# Altium schematic symbol library Resistors$.SchLib: 672 symbols (part 1 of 5)
Pins are listed as number, name and electrical type; pins without a type are passive.

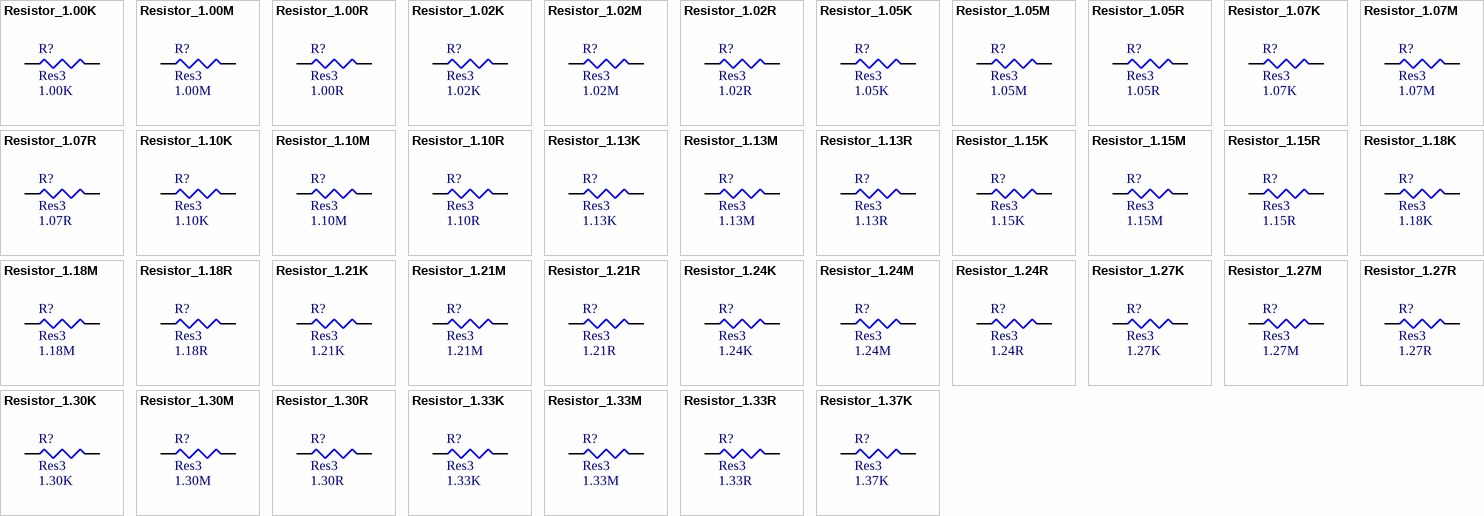
[diagram p0: symbols Resistor_1.00K to Resistor_1.37K]

## Resistor_1.00K
designator R?, comment Res3  value 1.00K
RES SMD 1.00K OHM 1% 1/8W 0805; MPN: CRCW08051K00FKEA; Name: Resistor_1.00K; PN: 541-1000KCCT-ND; URL: http://www.digikey.ca/product-detail/en/CRCW08051K00FKEA/541-1000KCCT-ND
footprint RESC2112X05M (Chip Resistor, 2-Leads, Body 2.05x1.25mm, IPC Low Density)
pins: 1, 2

## Resistor_1.00M
designator R?, comment Res3  value 1.00M
RES SMD 1.00M OHM 1% 1/8W 0805; MPN: CRCW08051M00FKEA; Name: Resistor_1.00M; PN: 541-1000MCCT-ND; URL: http://www.digikey.ca/product-detail/en/CRCW08051M00FKEA/541-1000MCCT-ND
footprint RESC2112X05M (Chip Resistor, 2-Leads, Body 2.05x1.25mm, IPC Low Density)
pins: 1, 2

## Resistor_1.00R
designator R?, comment Res3  value 1.00R
RES SMD 1.00R OHM 1% 1/8W 0805; MPN: CRCW08051R00FKEA; Name: Resistor_1.00R; PN: 541-1.00CCCT-ND; URL: http://www.digikey.ca/product-detail/en/CRCW08051R00FKEA/541-1.00CCCT-ND
footprint RESC2112X05M (Chip Resistor, 2-Leads, Body 2.05x1.25mm, IPC Low Density)
pins: 1, 2

## Resistor_1.02K
designator R?, comment Res3  value 1.02K
RES SMD 1.02K OHM 1% 1/8W 0805; MPN: CRCW08051K02FKEA; Name: Resistor_1.02K; PN: 541-1020KCCT-ND; URL: http://www.digikey.ca/product-detail/en/CRCW08051K02FKEA/541-1020KCCT-ND
footprint RESC2112X05M (Chip Resistor, 2-Leads, Body 2.05x1.25mm, IPC Low Density)
pins: 1, 2

## Resistor_1.02M
designator R?, comment Res3  value 1.02M
RES SMD 1.02M OHM 1% 1/8W 0805; MPN: CRCW08051M02FKEA; Name: Resistor_1.02M; PN: 541-1020MCCT-ND; URL: http://www.digikey.ca/product-detail/en/CRCW08051M02FKEA/541-1020MCCT-ND
footprint RESC2112X05M (Chip Resistor, 2-Leads, Body 2.05x1.25mm, IPC Low Density)
pins: 1, 2

## Resistor_1.02R
designator R?, comment Res3  value 1.02R
RES SMD 1.02R OHM 1% 1/8W 0805; MPN: CRCW08051R02FKEA; Name: Resistor_1.02R; PN: 541-1.02CCCT-ND; URL: http://www.digikey.ca/product-detail/en/CRCW08051R02FKEA/541-1.02CCCT-ND
footprint RESC2112X05M (Chip Resistor, 2-Leads, Body 2.05x1.25mm, IPC Low Density)
pins: 1, 2

## Resistor_1.05K
designator R?, comment Res3  value 1.05K
RES SMD 1.05K OHM 1% 1/8W 0805; MPN: CRCW08051K05FKEA; Name: Resistor_1.05K; PN: 541-1050KCCT-ND; URL: http://www.digikey.ca/product-detail/en/CRCW08051K05FKEA/541-1050KCCT-ND
footprint RESC2112X05M (Chip Resistor, 2-Leads, Body 2.05x1.25mm, IPC Low Density)
pins: 1, 2

## Resistor_1.05M
designator R?, comment Res3  value 1.05M
RES SMD 1.05M OHM 1% 1/8W 0805; MPN: CRCW08051M05FKEA; Name: Resistor_1.05M; PN: 541-1050MCCT-ND; URL: http://www.digikey.ca/product-detail/en/CRCW08051M05FKEA/541-1050MCCT-ND
footprint RESC2112X05M (Chip Resistor, 2-Leads, Body 2.05x1.25mm, IPC Low Density)
pins: 1, 2

## Resistor_1.05R
designator R?, comment Res3  value 1.05R
RES SMD 1.05R OHM 1% 1/8W 0805; MPN: CRCW08051R05FKEA; Name: Resistor_1.05R; PN: 541-1.05CCCT-ND; URL: http://www.digikey.ca/product-detail/en/CRCW08051R05FKEA/541-1.05CCCT-ND
footprint RESC2112X05M (Chip Resistor, 2-Leads, Body 2.05x1.25mm, IPC Low Density)
pins: 1, 2

## Resistor_1.07K
designator R?, comment Res3  value 1.07K
RES SMD 1.07K OHM 1% 1/8W 0805; MPN: CRCW08051K07FKEA; Name: Resistor_1.07K; PN: 541-1070KCCT-ND; URL: http://www.digikey.ca/product-detail/en/CRCW08051K07FKEA/541-1070KCCT-ND
footprint RESC2112X05M (Chip Resistor, 2-Leads, Body 2.05x1.25mm, IPC Low Density)
pins: 1, 2

## Resistor_1.07M
designator R?, comment Res3  value 1.07M
RES SMD 1.07M OHM 1% 1/8W 0805; MPN: CRCW08051M07FKEA; Name: Resistor_1.07M; PN: 541-1070MCCT-ND; URL: http://www.digikey.ca/product-detail/en/CRCW08051M07FKEA/541-1070MCCT-ND
footprint RESC2112X05M (Chip Resistor, 2-Leads, Body 2.05x1.25mm, IPC Low Density)
pins: 1, 2

## Resistor_1.07R
designator R?, comment Res3  value 1.07R
RES SMD 1.07R OHM 1% 1/8W 0805; MPN: CRCW08051R07FKEA; Name: Resistor_1.07R; PN: 541-1.07CCCT-ND; URL: http://www.digikey.ca/product-detail/en/CRCW08051R07FKEA/541-1.07CCCT-ND
footprint RESC2112X05M (Chip Resistor, 2-Leads, Body 2.05x1.25mm, IPC Low Density)
pins: 1, 2

## Resistor_1.10K
designator R?, comment Res3  value 1.10K
RES SMD 1.10K OHM 1% 1/8W 0805; MPN: CRCW08051K10FKEA; Name: Resistor_1.10K; PN: 541-1100KCCT-ND; URL: http://www.digikey.ca/product-detail/en/CRCW08051K10FKEA/541-1100KCCT-ND
footprint RESC2112X05M (Chip Resistor, 2-Leads, Body 2.05x1.25mm, IPC Low Density)
pins: 1, 2

## Resistor_1.10M
designator R?, comment Res3  value 1.10M
RES SMD 1.10M OHM 1% 1/8W 0805; MPN: CRCW08051M10FKEA; Name: Resistor_1.10M; PN: 541-1100MCCT-ND; URL: http://www.digikey.ca/product-detail/en/CRCW08051M10FKEA/541-1100MCCT-ND
footprint RESC2112X05M (Chip Resistor, 2-Leads, Body 2.05x1.25mm, IPC Low Density)
pins: 1, 2

## Resistor_1.10R
designator R?, comment Res3  value 1.10R
RES SMD 1.10R OHM 1% 1/8W 0805; MPN: CRCW08051R10FKEA; Name: Resistor_1.10R; PN: 541-1.10CCCT-ND; URL: http://www.digikey.ca/product-detail/en/CRCW08051R10FKEA/541-1.10CCCT-ND
footprint RESC2112X05M (Chip Resistor, 2-Leads, Body 2.05x1.25mm, IPC Low Density)
pins: 1, 2

## Resistor_1.13K
designator R?, comment Res3  value 1.13K
RES SMD 1.13K OHM 1% 1/8W 0805; MPN: CRCW08051K13FKEA; Name: Resistor_1.13K; PN: 541-1130KCCT-ND; URL: http://www.digikey.ca/product-detail/en/CRCW08051K13FKEA/541-1130KCCT-ND
footprint RESC2112X05M (Chip Resistor, 2-Leads, Body 2.05x1.25mm, IPC Low Density)
pins: 1, 2

## Resistor_1.13M
designator R?, comment Res3  value 1.13M
RES SMD 1.13M OHM 1% 1/8W 0805; MPN: CRCW08051M13FKEA; Name: Resistor_1.13M; PN: 541-1130MCCT-ND; URL: http://www.digikey.ca/product-detail/en/CRCW08051M13FKEA/541-1130MCCT-ND
footprint RESC2112X05M (Chip Resistor, 2-Leads, Body 2.05x1.25mm, IPC Low Density)
pins: 1, 2

## Resistor_1.13R
designator R?, comment Res3  value 1.13R
RES SMD 1.13R OHM 1% 1/8W 0805; MPN: CRCW08051R13FKEA; Name: Resistor_1.13R; PN: 541-1.13CCCT-ND; URL: http://www.digikey.ca/product-detail/en/CRCW08051R13FKEA/541-1.13CCCT-ND
footprint RESC2112X05M (Chip Resistor, 2-Leads, Body 2.05x1.25mm, IPC Low Density)
pins: 1, 2

## Resistor_1.15K
designator R?, comment Res3  value 1.15K
RES SMD 1.15K OHM 1% 1/8W 0805; MPN: CRCW08051K15FKEA; Name: Resistor_1.15K; PN: 541-1150KCCT-ND; URL: http://www.digikey.ca/product-detail/en/CRCW08051K15FKEA/541-1150KCCT-ND
footprint RESC2112X05M (Chip Resistor, 2-Leads, Body 2.05x1.25mm, IPC Low Density)
pins: 1, 2

## Resistor_1.15M
designator R?, comment Res3  value 1.15M
RES SMD 1.15M OHM 1% 1/8W 0805; MPN: CRCW08051M15FKEA; Name: Resistor_1.15M; PN: 541-1150MCCT-ND; URL: http://www.digikey.ca/product-detail/en/CRCW08051M15FKEA/541-1150MCCT-ND
footprint RESC2112X05M (Chip Resistor, 2-Leads, Body 2.05x1.25mm, IPC Low Density)
pins: 1, 2

## Resistor_1.15R
designator R?, comment Res3  value 1.15R
RES SMD 1.15R OHM 1% 1/8W 0805; MPN: CRCW08051R15FKEA; Name: Resistor_1.15R; PN: 541-1.15CCCT-ND; URL: http://www.digikey.ca/product-detail/en/CRCW08051R15FKEA/541-1.15CCCT-ND
footprint RESC2112X05M (Chip Resistor, 2-Leads, Body 2.05x1.25mm, IPC Low Density)
pins: 1, 2

## Resistor_1.18K
designator R?, comment Res3  value 1.18K
RES SMD 1.18K OHM 1% 1/8W 0805; MPN: CRCW08051K18FKEA; Name: Resistor_1.18K; PN: 541-1180KCCT-ND; URL: http://www.digikey.ca/product-detail/en/CRCW08051K18FKEA/541-1180KCCT-ND
footprint RESC2112X05M (Chip Resistor, 2-Leads, Body 2.05x1.25mm, IPC Low Density)
pins: 1, 2

## Resistor_1.18M
designator R?, comment Res3  value 1.18M
RES SMD 1.18M OHM 1% 1/8W 0805; MPN: CRCW08051M18FKEA; Name: Resistor_1.18M; PN: 541-1180MCCT-ND; URL: http://www.digikey.ca/product-detail/en/CRCW08051M18FKEA/541-1180MCCT-ND
footprint RESC2112X05M (Chip Resistor, 2-Leads, Body 2.05x1.25mm, IPC Low Density)
pins: 1, 2

## Resistor_1.18R
designator R?, comment Res3  value 1.18R
RES SMD 1.18R OHM 1% 1/8W 0805; MPN: CRCW08051R18FKEA; Name: Resistor_1.18R; PN: 541-1.18CCCT-ND; URL: http://www.digikey.ca/product-detail/en/CRCW08051R18FKEA/541-1.18CCCT-ND
footprint RESC2112X05M (Chip Resistor, 2-Leads, Body 2.05x1.25mm, IPC Low Density)
pins: 1, 2

## Resistor_1.21K
designator R?, comment Res3  value 1.21K
RES SMD 1.21K OHM 1% 1/8W 0805; MPN: CRCW08051K21FKEA; Name: Resistor_1.21K; PN: 541-1210KCCT-ND; URL: http://www.digikey.ca/product-detail/en/CRCW08051K21FKEA/541-1210KCCT-ND
footprint RESC2112X05M (Chip Resistor, 2-Leads, Body 2.05x1.25mm, IPC Low Density)
pins: 1, 2

## Resistor_1.21M
designator R?, comment Res3  value 1.21M
RES SMD 1.21M OHM 1% 1/8W 0805; MPN: CRCW08051M21FKEA; Name: Resistor_1.21M; PN: 541-1210MCCT-ND; URL: http://www.digikey.ca/product-detail/en/CRCW08051M21FKEA/541-1210MCCT-ND
footprint RESC2112X05M (Chip Resistor, 2-Leads, Body 2.05x1.25mm, IPC Low Density)
pins: 1, 2

## Resistor_1.21R
designator R?, comment Res3  value 1.21R
RES SMD 1.21R OHM 1% 1/8W 0805; MPN: CRCW08051R21FKEA; Name: Resistor_1.21R; PN: 541-1.21CCCT-ND; URL: http://www.digikey.ca/product-detail/en/CRCW08051R21FKEA/541-1.21CCCT-ND
footprint RESC2112X05M (Chip Resistor, 2-Leads, Body 2.05x1.25mm, IPC Low Density)
pins: 1, 2

## Resistor_1.24K
designator R?, comment Res3  value 1.24K
RES SMD 1.24K OHM 1% 1/8W 0805; MPN: CRCW08051K24FKEA; Name: Resistor_1.24K; PN: 541-1240KCCT-ND; URL: http://www.digikey.ca/product-detail/en/CRCW08051K24FKEA/541-1240KCCT-ND
footprint RESC2112X05M (Chip Resistor, 2-Leads, Body 2.05x1.25mm, IPC Low Density)
pins: 1, 2

## Resistor_1.24M
designator R?, comment Res3  value 1.24M
RES SMD 1.24M OHM 1% 1/8W 0805; MPN: CRCW08051M24FKEA; Name: Resistor_1.24M; PN: 541-1240MCCT-ND; URL: http://www.digikey.ca/product-detail/en/CRCW08051M24FKEA/541-1240MCCT-ND
footprint RESC2112X05M (Chip Resistor, 2-Leads, Body 2.05x1.25mm, IPC Low Density)
pins: 1, 2

## Resistor_1.24R
designator R?, comment Res3  value 1.24R
RES SMD 1.24R OHM 1% 1/8W 0805; MPN: CRCW08051R24FKEA; Name: Resistor_1.24R; PN: 541-1.24CCCT-ND; URL: http://www.digikey.ca/product-detail/en/CRCW08051R24FKEA/541-1.24CCCT-ND
footprint RESC2112X05M (Chip Resistor, 2-Leads, Body 2.05x1.25mm, IPC Low Density)
pins: 1, 2

## Resistor_1.27K
designator R?, comment Res3  value 1.27K
RES SMD 1.27K OHM 1% 1/8W 0805; MPN: CRCW08051K27FKEA; Name: Resistor_1.27K; PN: 541-1270KCCT-ND; URL: http://www.digikey.ca/product-detail/en/CRCW08051K27FKEA/541-1270KCCT-ND
footprint RESC2112X05M (Chip Resistor, 2-Leads, Body 2.05x1.25mm, IPC Low Density)
pins: 1, 2

## Resistor_1.27M
designator R?, comment Res3  value 1.27M
RES SMD 1.27M OHM 1% 1/8W 0805; MPN: CRCW08051M27FKEA; Name: Resistor_1.27M; PN: 541-1270MCCT-ND; URL: http://www.digikey.ca/product-detail/en/CRCW08051M27FKEA/541-1270MCCT-ND
footprint RESC2112X05M (Chip Resistor, 2-Leads, Body 2.05x1.25mm, IPC Low Density)
pins: 1, 2

## Resistor_1.27R
designator R?, comment Res3  value 1.27R
RES SMD 1.27R OHM 1% 1/8W 0805; MPN: CRCW08051R27FKEA; Name: Resistor_1.27R; PN: 541-1.27CCCT-ND; URL: http://www.digikey.ca/product-detail/en/CRCW08051R27FKEA/541-1.27CCCT-ND
footprint RESC2112X05M (Chip Resistor, 2-Leads, Body 2.05x1.25mm, IPC Low Density)
pins: 1, 2

## Resistor_1.30K
designator R?, comment Res3  value 1.30K
RES SMD 1.30K OHM 1% 1/8W 0805; MPN: CRCW08051K30FKEA; Name: Resistor_1.30K; PN: 541-1300KCCT-ND; URL: http://www.digikey.ca/product-detail/en/CRCW08051K30FKEA/541-1300KCCT-ND
footprint RESC2112X05M (Chip Resistor, 2-Leads, Body 2.05x1.25mm, IPC Low Density)
pins: 1, 2

## Resistor_1.30M
designator R?, comment Res3  value 1.30M
RES SMD 1.30M OHM 1% 1/8W 0805; MPN: CRCW08051M30FKEA; Name: Resistor_1.30M; PN: 541-1300MCCT-ND; URL: http://www.digikey.ca/product-detail/en/CRCW08051M30FKEA/541-1300MCCT-ND
footprint RESC2112X05M (Chip Resistor, 2-Leads, Body 2.05x1.25mm, IPC Low Density)
pins: 1, 2

## Resistor_1.30R
designator R?, comment Res3  value 1.30R
RES SMD 1.30R OHM 1% 1/8W 0805; MPN: CRCW08051R30FKEA; Name: Resistor_1.30R; PN: 541-1.30CCCT-ND; URL: http://www.digikey.ca/product-detail/en/CRCW08051R30FKEA/541-1.30CCCT-ND
footprint RESC2112X05M (Chip Resistor, 2-Leads, Body 2.05x1.25mm, IPC Low Density)
pins: 1, 2

## Resistor_1.33K
designator R?, comment Res3  value 1.33K
RES SMD 1.33K OHM 1% 1/8W 0805; MPN: CRCW08051K33FKEA; Name: Resistor_1.33K; PN: 541-1330KCCT-ND; URL: http://www.digikey.ca/product-detail/en/CRCW08051K33FKEA/541-1330KCCT-ND
footprint RESC2112X05M (Chip Resistor, 2-Leads, Body 2.05x1.25mm, IPC Low Density)
pins: 1, 2

## Resistor_1.33M
designator R?, comment Res3  value 1.33M
RES SMD 1.33M OHM 1% 1/8W 0805; MPN: CRCW08051M33FKEA; Name: Resistor_1.33M; PN: 541-1330MCCT-ND; URL: http://www.digikey.ca/product-detail/en/CRCW08051M33FKEA/541-1330MCCT-ND
footprint RESC2112X05M (Chip Resistor, 2-Leads, Body 2.05x1.25mm, IPC Low Density)
pins: 1, 2

## Resistor_1.33R
designator R?, comment Res3  value 1.33R
RES SMD 1.33R OHM 1% 1/8W 0805; MPN: CRCW08051R33FKEA; Name: Resistor_1.33R; PN: 541-1.33CCCT-ND; URL: http://www.digikey.ca/product-detail/en/CRCW08051R33FKEA/541-1.33CCCT-ND
footprint RESC2112X05M (Chip Resistor, 2-Leads, Body 2.05x1.25mm, IPC Low Density)
pins: 1, 2

## Resistor_1.37K
designator R?, comment Res3  value 1.37K
RES SMD 1.37K OHM 1% 1/8W 0805; MPN: CRCW08051K37FKEA; Name: Resistor_1.37K; PN: 541-1370KCCT-ND; URL: http://www.digikey.ca/product-detail/en/CRCW08051K37FKEA/541-1370KCCT-ND
footprint RESC2112X05M (Chip Resistor, 2-Leads, Body 2.05x1.25mm, IPC Low Density)
pins: 1, 2

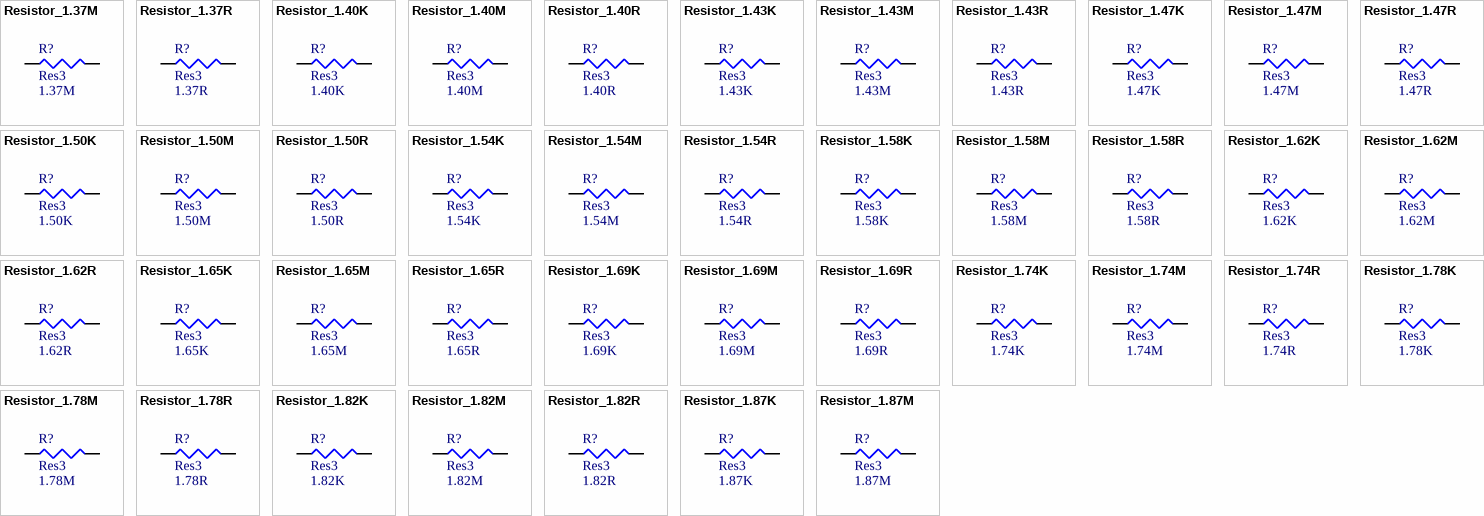
[diagram p1: symbols Resistor_1.37M to Resistor_1.87M]

## Resistor_1.37M
designator R?, comment Res3  value 1.37M
RES SMD 1.37M OHM 1% 1/8W 0805; MPN: CRCW08051M37FKEA; Name: Resistor_1.37M; PN: 541-1370MCCT-ND; URL: http://www.digikey.ca/product-detail/en/CRCW08051M37FKEA/541-1370MCCT-ND
footprint RESC2112X05M (Chip Resistor, 2-Leads, Body 2.05x1.25mm, IPC Low Density)
pins: 1, 2

## Resistor_1.37R
designator R?, comment Res3  value 1.37R
RES SMD 1.37R OHM 1% 1/8W 0805; MPN: CRCW08051R37FKEA; Name: Resistor_1.37R; PN: 541-1.37CCCT-ND; URL: http://www.digikey.ca/product-detail/en/CRCW08051R37FKEA/541-1.37CCCT-ND
footprint RESC2112X05M (Chip Resistor, 2-Leads, Body 2.05x1.25mm, IPC Low Density)
pins: 1, 2

## Resistor_1.40K
designator R?, comment Res3  value 1.40K
RES SMD 1.40K OHM 1% 1/8W 0805; MPN: CRCW08051K40FKEA; Name: Resistor_1.40K; PN: 541-1400KCCT-ND; URL: http://www.digikey.ca/product-detail/en/CRCW08051K40FKEA/541-1400KCCT-ND
footprint RESC2112X05M (Chip Resistor, 2-Leads, Body 2.05x1.25mm, IPC Low Density)
pins: 1, 2

## Resistor_1.40M
designator R?, comment Res3  value 1.40M
RES SMD 1.40M OHM 1% 1/8W 0805; MPN: CRCW08051M40FKEA; Name: Resistor_1.40M; PN: 541-1400MCCT-ND; URL: http://www.digikey.ca/product-detail/en/CRCW08051M40FKEA/541-1400MCCT-ND
footprint RESC2112X05M (Chip Resistor, 2-Leads, Body 2.05x1.25mm, IPC Low Density)
pins: 1, 2

## Resistor_1.40R
designator R?, comment Res3  value 1.40R
RES SMD 1.40R OHM 1% 1/8W 0805; MPN: CRCW08051R40FKEA; Name: Resistor_1.40R; PN: 541-1.40CCCT-ND; URL: http://www.digikey.ca/product-detail/en/CRCW08051R40FKEA/541-1.40CCCT-ND
footprint RESC2112X05M (Chip Resistor, 2-Leads, Body 2.05x1.25mm, IPC Low Density)
pins: 1, 2

## Resistor_1.43K
designator R?, comment Res3  value 1.43K
RES SMD 1.43K OHM 1% 1/8W 0805; MPN: CRCW08051K43FKEA; Name: Resistor_1.43K; PN: 541-1430KCCT-ND; URL: http://www.digikey.ca/product-detail/en/CRCW08051K43FKEA/541-1430KCCT-ND
footprint RESC2112X05M (Chip Resistor, 2-Leads, Body 2.05x1.25mm, IPC Low Density)
pins: 1, 2

## Resistor_1.43M
designator R?, comment Res3  value 1.43M
RES SMD 1.43M OHM 1% 1/8W 0805; MPN: CRCW08051M43FKEA; Name: Resistor_1.43M; PN: 541-1430MCCT-ND; URL: http://www.digikey.ca/product-detail/en/CRCW08051M43FKEA/541-1430MCCT-ND
footprint RESC2112X05M (Chip Resistor, 2-Leads, Body 2.05x1.25mm, IPC Low Density)
pins: 1, 2

## Resistor_1.43R
designator R?, comment Res3  value 1.43R
RES SMD 1.43R OHM 1% 1/8W 0805; MPN: CRCW08051R43FKEA; Name: Resistor_1.43R; PN: 541-1.43CCCT-ND; URL: http://www.digikey.ca/product-detail/en/CRCW08051R43FKEA/541-1.43CCCT-ND
footprint RESC2112X05M (Chip Resistor, 2-Leads, Body 2.05x1.25mm, IPC Low Density)
pins: 1, 2

## Resistor_1.47K
designator R?, comment Res3  value 1.47K
RES SMD 1.47K OHM 1% 1/8W 0805; MPN: CRCW08051K47FKEA; Name: Resistor_1.47K; PN: 541-1470KCCT-ND; URL: http://www.digikey.ca/product-detail/en/CRCW08051K47FKEA/541-1470KCCT-ND
footprint RESC2112X05M (Chip Resistor, 2-Leads, Body 2.05x1.25mm, IPC Low Density)
pins: 1, 2

## Resistor_1.47M
designator R?, comment Res3  value 1.47M
RES SMD 1.47M OHM 1% 1/8W 0805; MPN: CRCW08051M47FKEA; Name: Resistor_1.47M; PN: 541-1470MCCT-ND; URL: http://www.digikey.ca/product-detail/en/CRCW08051M47FKEA/541-1470MCCT-ND
footprint RESC2112X05M (Chip Resistor, 2-Leads, Body 2.05x1.25mm, IPC Low Density)
pins: 1, 2

## Resistor_1.47R
designator R?, comment Res3  value 1.47R
RES SMD 1.47R OHM 1% 1/8W 0805; MPN: CRCW08051R47FKEA; Name: Resistor_1.47R; PN: 541-1.47CCCT-ND; URL: http://www.digikey.ca/product-detail/en/CRCW08051R47FKEA/541-1.47CCCT-ND
footprint RESC2112X05M (Chip Resistor, 2-Leads, Body 2.05x1.25mm, IPC Low Density)
pins: 1, 2

## Resistor_1.50K
designator R?, comment Res3  value 1.50K
RES SMD 1.50K OHM 1% 1/8W 0805; MPN: CRCW08051K50FKEA; Name: Resistor_1.50K; PN: 541-1500KCCT-ND; URL: http://www.digikey.ca/product-detail/en/CRCW08051K50FKEA/541-1500KCCT-ND
footprint RESC2112X05M (Chip Resistor, 2-Leads, Body 2.05x1.25mm, IPC Low Density)
pins: 1, 2

## Resistor_1.50M
designator R?, comment Res3  value 1.50M
RES SMD 1.50M OHM 1% 1/8W 0805; MPN: CRCW08051M50FKEA; Name: Resistor_1.50M; PN: 541-1500MCCT-ND; URL: http://www.digikey.ca/product-detail/en/CRCW08051M50FKEA/541-1500MCCT-ND
footprint RESC2112X05M (Chip Resistor, 2-Leads, Body 2.05x1.25mm, IPC Low Density)
pins: 1, 2

## Resistor_1.50R
designator R?, comment Res3  value 1.50R
RES SMD 1.50R OHM 1% 1/8W 0805; MPN: CRCW08051R50FKEA; Name: Resistor_1.50R; PN: 541-1.50CCCT-ND; URL: http://www.digikey.ca/product-detail/en/CRCW08051R50FKEA/541-1.50CCCT-ND
footprint RESC2112X05M (Chip Resistor, 2-Leads, Body 2.05x1.25mm, IPC Low Density)
pins: 1, 2

## Resistor_1.54K
designator R?, comment Res3  value 1.54K
RES SMD 1.54K OHM 1% 1/8W 0805; MPN: CRCW08051K54FKEA; Name: Resistor_1.54K; PN: 541-1540KCCT-ND; URL: http://www.digikey.ca/product-detail/en/CRCW08051K54FKEA/541-1540KCCT-ND
footprint RESC2112X05M (Chip Resistor, 2-Leads, Body 2.05x1.25mm, IPC Low Density)
pins: 1, 2

## Resistor_1.54M
designator R?, comment Res3  value 1.54M
RES SMD 1.54M OHM 1% 1/8W 0805; MPN: CRCW08051M54FKEA; Name: Resistor_1.54M; PN: 541-1540MCCT-ND; URL: http://www.digikey.ca/product-detail/en/CRCW08051M54FKEA/541-1540MCCT-ND
footprint RESC2112X05M (Chip Resistor, 2-Leads, Body 2.05x1.25mm, IPC Low Density)
pins: 1, 2

## Resistor_1.54R
designator R?, comment Res3  value 1.54R
RES SMD 1.54R OHM 1% 1/8W 0805; MPN: CRCW08051R54FKEA; Name: Resistor_1.54R; PN: 541-1.54CCCT-ND; URL: http://www.digikey.ca/product-detail/en/CRCW08051R54FKEA/541-1.54CCCT-ND
footprint RESC2112X05M (Chip Resistor, 2-Leads, Body 2.05x1.25mm, IPC Low Density)
pins: 1, 2

## Resistor_1.58K
designator R?, comment Res3  value 1.58K
RES SMD 1.58K OHM 1% 1/8W 0805; MPN: CRCW08051K58FKEA; Name: Resistor_1.58K; PN: 541-1580KCCT-ND; URL: http://www.digikey.ca/product-detail/en/CRCW08051K58FKEA/541-1580KCCT-ND
footprint RESC2112X05M (Chip Resistor, 2-Leads, Body 2.05x1.25mm, IPC Low Density)
pins: 1, 2

## Resistor_1.58M
designator R?, comment Res3  value 1.58M
RES SMD 1.58M OHM 1% 1/8W 0805; MPN: CRCW08051M58FKEA; Name: Resistor_1.58M; PN: 541-1580MCCT-ND; URL: http://www.digikey.ca/product-detail/en/CRCW08051M58FKEA/541-1580MCCT-ND
footprint RESC2112X05M (Chip Resistor, 2-Leads, Body 2.05x1.25mm, IPC Low Density)
pins: 1, 2

## Resistor_1.58R
designator R?, comment Res3  value 1.58R
RES SMD 1.58R OHM 1% 1/8W 0805; MPN: CRCW08051R58FKEA; Name: Resistor_1.58R; PN: 541-1.58CCCT-ND; URL: http://www.digikey.ca/product-detail/en/CRCW08051R58FKEA/541-1.58CCCT-ND
footprint RESC2112X05M (Chip Resistor, 2-Leads, Body 2.05x1.25mm, IPC Low Density)
pins: 1, 2

## Resistor_1.62K
designator R?, comment Res3  value 1.62K
RES SMD 1.62K OHM 1% 1/8W 0805; MPN: CRCW08051K62FKEA; Name: Resistor_1.62K; PN: 541-1620KCCT-ND; URL: http://www.digikey.ca/product-detail/en/CRCW08051K62FKEA/541-1620KCCT-ND
footprint RESC2112X05M (Chip Resistor, 2-Leads, Body 2.05x1.25mm, IPC Low Density)
pins: 1, 2

## Resistor_1.62M
designator R?, comment Res3  value 1.62M
RES SMD 1.62M OHM 1% 1/8W 0805; MPN: CRCW08051M62FKEA; Name: Resistor_1.62M; PN: 541-1620MCCT-ND; URL: http://www.digikey.ca/product-detail/en/CRCW08051M62FKEA/541-1620MCCT-ND
footprint RESC2112X05M (Chip Resistor, 2-Leads, Body 2.05x1.25mm, IPC Low Density)
pins: 1, 2

## Resistor_1.62R
designator R?, comment Res3  value 1.62R
RES SMD 1.62R OHM 1% 1/8W 0805; MPN: CRCW08051R62FKEA; Name: Resistor_1.62R; PN: 541-1.62CCCT-ND; URL: http://www.digikey.ca/product-detail/en/CRCW08051R62FKEA/541-1.62CCCT-ND
footprint RESC2112X05M (Chip Resistor, 2-Leads, Body 2.05x1.25mm, IPC Low Density)
pins: 1, 2

## Resistor_1.65K
designator R?, comment Res3  value 1.65K
RES SMD 1.65K OHM 1% 1/8W 0805; MPN: CRCW08051K65FKEA; Name: Resistor_1.65K; PN: 541-1650KCCT-ND; URL: http://www.digikey.ca/product-detail/en/CRCW08051K65FKEA/541-1650KCCT-ND
footprint RESC2112X05M (Chip Resistor, 2-Leads, Body 2.05x1.25mm, IPC Low Density)
pins: 1, 2

## Resistor_1.65M
designator R?, comment Res3  value 1.65M
RES SMD 1.65M OHM 1% 1/8W 0805; MPN: CRCW08051M65FKEA; Name: Resistor_1.65M; PN: 541-1650MCCT-ND; URL: http://www.digikey.ca/product-detail/en/CRCW08051M65FKEA/541-1650MCCT-ND
footprint RESC2112X05M (Chip Resistor, 2-Leads, Body 2.05x1.25mm, IPC Low Density)
pins: 1, 2

## Resistor_1.65R
designator R?, comment Res3  value 1.65R
RES SMD 1.65R OHM 1% 1/8W 0805; MPN: CRCW08051R65FKEA; Name: Resistor_1.65R; PN: 541-1.65CCCT-ND; URL: http://www.digikey.ca/product-detail/en/CRCW08051R65FKEA/541-1.65CCCT-ND
footprint RESC2112X05M (Chip Resistor, 2-Leads, Body 2.05x1.25mm, IPC Low Density)
pins: 1, 2

## Resistor_1.69K
designator R?, comment Res3  value 1.69K
RES SMD 1.69K OHM 1% 1/8W 0805; MPN: CRCW08051K69FKEA; Name: Resistor_1.69K; PN: 541-1690KCCT-ND; URL: http://www.digikey.ca/product-detail/en/CRCW08051K69FKEA/541-1690KCCT-ND
footprint RESC2112X05M (Chip Resistor, 2-Leads, Body 2.05x1.25mm, IPC Low Density)
pins: 1, 2

## Resistor_1.69M
designator R?, comment Res3  value 1.69M
RES SMD 1.69M OHM 1% 1/8W 0805; MPN: CRCW08051M69FKEA; Name: Resistor_1.69M; PN: 541-1690MCCT-ND; URL: http://www.digikey.ca/product-detail/en/CRCW08051M69FKEA/541-1690MCCT-ND
footprint RESC2112X05M (Chip Resistor, 2-Leads, Body 2.05x1.25mm, IPC Low Density)
pins: 1, 2

## Resistor_1.69R
designator R?, comment Res3  value 1.69R
RES SMD 1.69R OHM 1% 1/8W 0805; MPN: CRCW08051R69FKEA; Name: Resistor_1.69R; PN: 541-1.69CCCT-ND; URL: http://www.digikey.ca/product-detail/en/CRCW08051R69FKEA/541-1.69CCCT-ND
footprint RESC2112X05M (Chip Resistor, 2-Leads, Body 2.05x1.25mm, IPC Low Density)
pins: 1, 2

## Resistor_1.74K
designator R?, comment Res3  value 1.74K
RES SMD 1.74K OHM 1% 1/8W 0805; MPN: CRCW08051K74FKEA; Name: Resistor_1.74K; PN: 541-1740KCCT-ND; URL: http://www.digikey.ca/product-detail/en/CRCW08051K74FKEA/541-1740KCCT-ND
footprint RESC2112X05M (Chip Resistor, 2-Leads, Body 2.05x1.25mm, IPC Low Density)
pins: 1, 2

## Resistor_1.74M
designator R?, comment Res3  value 1.74M
RES SMD 1.74M OHM 1% 1/8W 0805; MPN: CRCW08051M74FKEA; Name: Resistor_1.74M; PN: 541-1740MCCT-ND; URL: http://www.digikey.ca/product-detail/en/CRCW08051M74FKEA/541-1740MCCT-ND
footprint RESC2112X05M (Chip Resistor, 2-Leads, Body 2.05x1.25mm, IPC Low Density)
pins: 1, 2

## Resistor_1.74R
designator R?, comment Res3  value 1.74R
RES SMD 1.74R OHM 1% 1/8W 0805; MPN: CRCW08051R74FKEA; Name: Resistor_1.74R; PN: 541-1.74CCCT-ND; URL: http://www.digikey.ca/product-detail/en/CRCW08051R74FKEA/541-1.74CCCT-ND
footprint RESC2112X05M (Chip Resistor, 2-Leads, Body 2.05x1.25mm, IPC Low Density)
pins: 1, 2

## Resistor_1.78K
designator R?, comment Res3  value 1.78K
RES SMD 1.78K OHM 1% 1/8W 0805; MPN: CRCW08051K78FKEA; Name: Resistor_1.78K; PN: 541-1780KCCT-ND; URL: http://www.digikey.ca/product-detail/en/CRCW08051K78FKEA/541-1780KCCT-ND
footprint RESC2112X05M (Chip Resistor, 2-Leads, Body 2.05x1.25mm, IPC Low Density)
pins: 1, 2

## Resistor_1.78M
designator R?, comment Res3  value 1.78M
RES SMD 1.78M OHM 1% 1/8W 0805; MPN: CRCW08051M78FKEA; Name: Resistor_1.78M; PN: 541-1780MCCT-ND; URL: http://www.digikey.ca/product-detail/en/CRCW08051M78FKEA/541-1780MCCT-ND
footprint RESC2112X05M (Chip Resistor, 2-Leads, Body 2.05x1.25mm, IPC Low Density)
pins: 1, 2

## Resistor_1.78R
designator R?, comment Res3  value 1.78R
RES SMD 1.78R OHM 1% 1/8W 0805; MPN: CRCW08051R78FKEA; Name: Resistor_1.78R; PN: 541-1.78CCCT-ND; URL: http://www.digikey.ca/product-detail/en/CRCW08051R78FKEA/541-1.78CCCT-ND
footprint RESC2112X05M (Chip Resistor, 2-Leads, Body 2.05x1.25mm, IPC Low Density)
pins: 1, 2

## Resistor_1.82K
designator R?, comment Res3  value 1.82K
RES SMD 1.82K OHM 1% 1/8W 0805; MPN: CRCW08051K82FKEA; Name: Resistor_1.82K; PN: 541-1820KCCT-ND; URL: http://www.digikey.ca/product-detail/en/CRCW08051K82FKEA/541-1820KCCT-ND
footprint RESC2112X05M (Chip Resistor, 2-Leads, Body 2.05x1.25mm, IPC Low Density)
pins: 1, 2

## Resistor_1.82M
designator R?, comment Res3  value 1.82M
RES SMD 1.82M OHM 1% 1/8W 0805; MPN: CRCW08051M82FKEA; Name: Resistor_1.82M; PN: 541-1820MCCT-ND; URL: http://www.digikey.ca/product-detail/en/CRCW08051M82FKEA/541-1820MCCT-ND
footprint RESC2112X05M (Chip Resistor, 2-Leads, Body 2.05x1.25mm, IPC Low Density)
pins: 1, 2

## Resistor_1.82R
designator R?, comment Res3  value 1.82R
RES SMD 1.82R OHM 1% 1/8W 0805; MPN: CRCW08051R82FKEA; Name: Resistor_1.82R; PN: 541-1.82CCCT-ND; URL: http://www.digikey.ca/product-detail/en/CRCW08051R82FKEA/541-1.82CCCT-ND
footprint RESC2112X05M (Chip Resistor, 2-Leads, Body 2.05x1.25mm, IPC Low Density)
pins: 1, 2

## Resistor_1.87K
designator R?, comment Res3  value 1.87K
RES SMD 1.87K OHM 1% 1/8W 0805; MPN: CRCW08051K87FKEA; Name: Resistor_1.87K; PN: 541-1870KCCT-ND; URL: http://www.digikey.ca/product-detail/en/CRCW08051K87FKEA/541-1870KCCT-ND
footprint RESC2112X05M (Chip Resistor, 2-Leads, Body 2.05x1.25mm, IPC Low Density)
pins: 1, 2

## Resistor_1.87M
designator R?, comment Res3  value 1.87M
RES SMD 1.87M OHM 1% 1/8W 0805; MPN: CRCW08051M87FKEA; Name: Resistor_1.87M; PN: 541-1870MCCT-ND; URL: http://www.digikey.ca/product-detail/en/CRCW08051M87FKEA/541-1870MCCT-ND
footprint RESC2112X05M (Chip Resistor, 2-Leads, Body 2.05x1.25mm, IPC Low Density)
pins: 1, 2

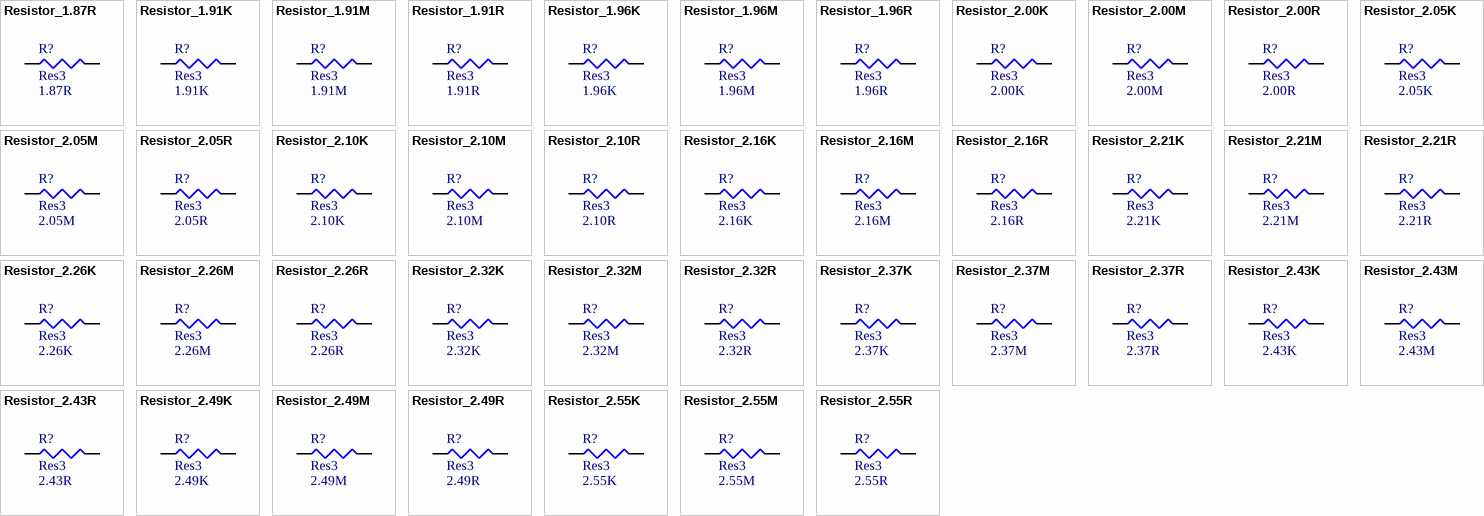
[diagram p2: symbols Resistor_1.87R to Resistor_2.55R]

## Resistor_1.87R
designator R?, comment Res3  value 1.87R
RES SMD 1.87R OHM 1% 1/8W 0805; MPN: CRCW08051R87FKEA; Name: Resistor_1.87R; PN: 541-1.87CCCT-ND; URL: http://www.digikey.ca/product-detail/en/CRCW08051R87FKEA/541-1.87CCCT-ND
footprint RESC2112X05M (Chip Resistor, 2-Leads, Body 2.05x1.25mm, IPC Low Density)
pins: 1, 2

## Resistor_1.91K
designator R?, comment Res3  value 1.91K
RES SMD 1.91K OHM 1% 1/8W 0805; MPN: CRCW08051K91FKEA; Name: Resistor_1.91K; PN: 541-1910KCCT-ND; URL: http://www.digikey.ca/product-detail/en/CRCW08051K91FKEA/541-1910KCCT-ND
footprint RESC2112X05M (Chip Resistor, 2-Leads, Body 2.05x1.25mm, IPC Low Density)
pins: 1, 2

## Resistor_1.91M
designator R?, comment Res3  value 1.91M
RES SMD 1.91M OHM 1% 1/8W 0805; MPN: CRCW08051M91FKEA; Name: Resistor_1.91M; PN: 541-1910MCCT-ND; URL: http://www.digikey.ca/product-detail/en/CRCW08051M91FKEA/541-1910MCCT-ND
footprint RESC2112X05M (Chip Resistor, 2-Leads, Body 2.05x1.25mm, IPC Low Density)
pins: 1, 2

## Resistor_1.91R
designator R?, comment Res3  value 1.91R
RES SMD 1.91R OHM 1% 1/8W 0805; MPN: CRCW08051R91FKEA; Name: Resistor_1.91R; PN: 541-1.91CCCT-ND; URL: http://www.digikey.ca/product-detail/en/CRCW08051R91FKEA/541-1.91CCCT-ND
footprint RESC2112X05M (Chip Resistor, 2-Leads, Body 2.05x1.25mm, IPC Low Density)
pins: 1, 2

## Resistor_1.96K
designator R?, comment Res3  value 1.96K
RES SMD 1.96K OHM 1% 1/8W 0805; MPN: CRCW08051K96FKEA; Name: Resistor_1.96K; PN: 541-1960KCCT-ND; URL: http://www.digikey.ca/product-detail/en/CRCW08051K96FKEA/541-1960KCCT-ND
footprint RESC2112X05M (Chip Resistor, 2-Leads, Body 2.05x1.25mm, IPC Low Density)
pins: 1, 2

## Resistor_1.96M
designator R?, comment Res3  value 1.96M
RES SMD 1.96M OHM 1% 1/8W 0805; MPN: CRCW08051M96FKEA; Name: Resistor_1.96M; PN: 541-1960MCCT-ND; URL: http://www.digikey.ca/product-detail/en/CRCW08051M96FKEA/541-1960MCCT-ND
footprint RESC2112X05M (Chip Resistor, 2-Leads, Body 2.05x1.25mm, IPC Low Density)
pins: 1, 2

## Resistor_1.96R
designator R?, comment Res3  value 1.96R
RES SMD 1.96R OHM 1% 1/8W 0805; MPN: CRCW08051R96FKEA; Name: Resistor_1.96R; PN: 541-1.96CCCT-ND; URL: http://www.digikey.ca/product-detail/en/CRCW08051R96FKEA/541-1.96CCCT-ND
footprint RESC2112X05M (Chip Resistor, 2-Leads, Body 2.05x1.25mm, IPC Low Density)
pins: 1, 2

## Resistor_2.00K
designator R?, comment Res3  value 2.00K
RES SMD 2.00K OHM 1% 1/8W 0805; MPN: CRCW08052K00FKEA; Name: Resistor_2.00K; PN: 541-2000KCCT-ND; URL: http://www.digikey.ca/product-detail/en/CRCW08052K00FKEA/541-2000KCCT-ND
footprint RESC2112X05M (Chip Resistor, 2-Leads, Body 2.05x1.25mm, IPC Low Density)
pins: 1, 2

## Resistor_2.00M
designator R?, comment Res3  value 2.00M
RES SMD 2.00M OHM 1% 1/8W 0805; MPN: CRCW08052M00FKEA; Name: Resistor_2.00M; PN: 541-2000MCCT-ND; URL: http://www.digikey.ca/product-detail/en/CRCW08052M00FKEA/541-2000MCCT-ND
footprint RESC2112X05M (Chip Resistor, 2-Leads, Body 2.05x1.25mm, IPC Low Density)
pins: 1, 2

## Resistor_2.00R
designator R?, comment Res3  value 2.00R
RES SMD 2.00R OHM 1% 1/8W 0805; MPN: CRCW08052R00FKEA; Name: Resistor_2.00R; PN: 541-2.00CCCT-ND; URL: http://www.digikey.ca/product-detail/en/CRCW08052R00FKEA/541-2.00CCCT-ND
footprint RESC2112X05M (Chip Resistor, 2-Leads, Body 2.05x1.25mm, IPC Low Density)
pins: 1, 2

## Resistor_2.05K
designator R?, comment Res3  value 2.05K
RES SMD 2.05K OHM 1% 1/8W 0805; MPN: CRCW08052K05FKEA; Name: Resistor_2.05K; PN: 541-2050KCCT-ND; URL: http://www.digikey.ca/product-detail/en/CRCW08052K05FKEA/541-2050KCCT-ND
footprint RESC2112X05M (Chip Resistor, 2-Leads, Body 2.05x1.25mm, IPC Low Density)
pins: 1, 2

## Resistor_2.05M
designator R?, comment Res3  value 2.05M
RES SMD 2.05M OHM 1% 1/8W 0805; MPN: CRCW08052M05FKEA; Name: Resistor_2.05M; PN: 541-2050MCCT-ND; URL: http://www.digikey.ca/product-detail/en/CRCW08052M05FKEA/541-2050MCCT-ND
footprint RESC2112X05M (Chip Resistor, 2-Leads, Body 2.05x1.25mm, IPC Low Density)
pins: 1, 2

## Resistor_2.05R
designator R?, comment Res3  value 2.05R
RES SMD 2.05R OHM 1% 1/8W 0805; MPN: CRCW08052R05FKEA; Name: Resistor_2.05R; PN: 541-2.05CCCT-ND; URL: http://www.digikey.ca/product-detail/en/CRCW08052R05FKEA/541-2.05CCCT-ND
footprint RESC2112X05M (Chip Resistor, 2-Leads, Body 2.05x1.25mm, IPC Low Density)
pins: 1, 2

## Resistor_2.10K
designator R?, comment Res3  value 2.10K
RES SMD 2.10K OHM 1% 1/8W 0805; MPN: CRCW08052K10FKEA; Name: Resistor_2.10K; PN: 541-2100KCCT-ND; URL: http://www.digikey.ca/product-detail/en/CRCW08052K10FKEA/541-2100KCCT-ND
footprint RESC2112X05M (Chip Resistor, 2-Leads, Body 2.05x1.25mm, IPC Low Density)
pins: 1, 2

## Resistor_2.10M
designator R?, comment Res3  value 2.10M
RES SMD 2.10M OHM 1% 1/8W 0805; MPN: CRCW08052M10FKEA; Name: Resistor_2.10M; PN: 541-2100MCCT-ND; URL: http://www.digikey.ca/product-detail/en/CRCW08052M10FKEA/541-2100MCCT-ND
footprint RESC2112X05M (Chip Resistor, 2-Leads, Body 2.05x1.25mm, IPC Low Density)
pins: 1, 2

## Resistor_2.10R
designator R?, comment Res3  value 2.10R
RES SMD 2.10R OHM 1% 1/8W 0805; MPN: CRCW08052R10FKEA; Name: Resistor_2.10R; PN: 541-2.10CCCT-ND; URL: http://www.digikey.ca/product-detail/en/CRCW08052R10FKEA/541-2.10CCCT-ND
footprint RESC2112X05M (Chip Resistor, 2-Leads, Body 2.05x1.25mm, IPC Low Density)
pins: 1, 2

## Resistor_2.16K
designator R?, comment Res3  value 2.16K
RES SMD 2.16K OHM 1% 1/8W 0805; MPN: CRCW08052K16FKEA; Name: Resistor_2.16K; PN: 541-2160KCCT-ND; URL: http://www.digikey.ca/product-detail/en/CRCW08052K16FKEA/541-2160KCCT-ND
footprint RESC2112X05M (Chip Resistor, 2-Leads, Body 2.05x1.25mm, IPC Low Density)
pins: 1, 2

## Resistor_2.16M
designator R?, comment Res3  value 2.16M
RES SMD 2.16M OHM 1% 1/8W 0805; MPN: CRCW08052M16FKEA; Name: Resistor_2.16M; PN: 541-2160MCCT-ND; URL: http://www.digikey.ca/product-detail/en/CRCW08052M16FKEA/541-2160MCCT-ND
footprint RESC2112X05M (Chip Resistor, 2-Leads, Body 2.05x1.25mm, IPC Low Density)
pins: 1, 2

## Resistor_2.16R
designator R?, comment Res3  value 2.16R
RES SMD 2.16R OHM 1% 1/8W 0805; MPN: CRCW08052R16FKEA; Name: Resistor_2.16R; PN: 541-2.16CCCT-ND; URL: http://www.digikey.ca/product-detail/en/CRCW08052R16FKEA/541-2.16CCCT-ND
footprint RESC2112X05M (Chip Resistor, 2-Leads, Body 2.05x1.25mm, IPC Low Density)
pins: 1, 2

## Resistor_2.21K
designator R?, comment Res3  value 2.21K
RES SMD 2.21K OHM 1% 1/8W 0805; MPN: CRCW08052K21FKEA; Name: Resistor_2.21K; PN: 541-2210KCCT-ND; URL: http://www.digikey.ca/product-detail/en/CRCW08052K21FKEA/541-2210KCCT-ND
footprint RESC2112X05M (Chip Resistor, 2-Leads, Body 2.05x1.25mm, IPC Low Density)
pins: 1, 2

## Resistor_2.21M
designator R?, comment Res3  value 2.21M
RES SMD 2.21M OHM 1% 1/8W 0805; MPN: CRCW08052M21FKEA; Name: Resistor_2.21M; PN: 541-2210MCCT-ND; URL: http://www.digikey.ca/product-detail/en/CRCW08052M21FKEA/541-2210MCCT-ND
footprint RESC2112X05M (Chip Resistor, 2-Leads, Body 2.05x1.25mm, IPC Low Density)
pins: 1, 2

## Resistor_2.21R
designator R?, comment Res3  value 2.21R
RES SMD 2.21R OHM 1% 1/8W 0805; MPN: CRCW08052R21FKEA; Name: Resistor_2.21R; PN: 541-2.21CCCT-ND; URL: http://www.digikey.ca/product-detail/en/CRCW08052R21FKEA/541-2.21CCCT-ND
footprint RESC2112X05M (Chip Resistor, 2-Leads, Body 2.05x1.25mm, IPC Low Density)
pins: 1, 2

## Resistor_2.26K
designator R?, comment Res3  value 2.26K
RES SMD 2.26K OHM 1% 1/8W 0805; MPN: CRCW08052K26FKEA; Name: Resistor_2.26K; PN: 541-2260KCCT-ND; URL: http://www.digikey.ca/product-detail/en/CRCW08052K26FKEA/541-2260KCCT-ND
footprint RESC2112X05M (Chip Resistor, 2-Leads, Body 2.05x1.25mm, IPC Low Density)
pins: 1, 2

## Resistor_2.26M
designator R?, comment Res3  value 2.26M
RES SMD 2.26M OHM 1% 1/8W 0805; MPN: CRCW08052M26FKEA; Name: Resistor_2.26M; PN: 541-2260MCCT-ND; URL: http://www.digikey.ca/product-detail/en/CRCW08052M26FKEA/541-2260MCCT-ND
footprint RESC2112X05M (Chip Resistor, 2-Leads, Body 2.05x1.25mm, IPC Low Density)
pins: 1, 2

## Resistor_2.26R
designator R?, comment Res3  value 2.26R
RES SMD 2.26R OHM 1% 1/8W 0805; MPN: CRCW08052R26FKEA; Name: Resistor_2.26R; PN: 541-2.26CCCT-ND; URL: http://www.digikey.ca/product-detail/en/CRCW08052R26FKEA/541-2.26CCCT-ND
footprint RESC2112X05M (Chip Resistor, 2-Leads, Body 2.05x1.25mm, IPC Low Density)
pins: 1, 2

## Resistor_2.32K
designator R?, comment Res3  value 2.32K
RES SMD 2.32K OHM 1% 1/8W 0805; MPN: CRCW08052K32FKEA; Name: Resistor_2.32K; PN: 541-2320KCCT-ND; URL: http://www.digikey.ca/product-detail/en/CRCW08052K32FKEA/541-2320KCCT-ND
footprint RESC2112X05M (Chip Resistor, 2-Leads, Body 2.05x1.25mm, IPC Low Density)
pins: 1, 2

## Resistor_2.32M
designator R?, comment Res3  value 2.32M
RES SMD 2.32M OHM 1% 1/8W 0805; MPN: CRCW08052M32FKEA; Name: Resistor_2.32M; PN: 541-2320MCCT-ND; URL: http://www.digikey.ca/product-detail/en/CRCW08052M32FKEA/541-2320MCCT-ND
footprint RESC2112X05M (Chip Resistor, 2-Leads, Body 2.05x1.25mm, IPC Low Density)
pins: 1, 2

## Resistor_2.32R
designator R?, comment Res3  value 2.32R
RES SMD 2.32R OHM 1% 1/8W 0805; MPN: CRCW08052R32FKEA; Name: Resistor_2.32R; PN: 541-2.32CCCT-ND; URL: http://www.digikey.ca/product-detail/en/CRCW08052R32FKEA/541-2.32CCCT-ND
footprint RESC2112X05M (Chip Resistor, 2-Leads, Body 2.05x1.25mm, IPC Low Density)
pins: 1, 2

## Resistor_2.37K
designator R?, comment Res3  value 2.37K
RES SMD 2.37K OHM 1% 1/8W 0805; MPN: CRCW08052K37FKEA; Name: Resistor_2.37K; PN: 541-2370KCCT-ND; URL: http://www.digikey.ca/product-detail/en/CRCW08052K37FKEA/541-2370KCCT-ND
footprint RESC2112X05M (Chip Resistor, 2-Leads, Body 2.05x1.25mm, IPC Low Density)
pins: 1, 2

## Resistor_2.37M
designator R?, comment Res3  value 2.37M
RES SMD 2.37M OHM 1% 1/8W 0805; MPN: CRCW08052M37FKEA; Name: Resistor_2.37M; PN: 541-2370MCCT-ND; URL: http://www.digikey.ca/product-detail/en/CRCW08052M37FKEA/541-2370MCCT-ND
footprint RESC2112X05M (Chip Resistor, 2-Leads, Body 2.05x1.25mm, IPC Low Density)
pins: 1, 2

## Resistor_2.37R
designator R?, comment Res3  value 2.37R
RES SMD 2.37R OHM 1% 1/8W 0805; MPN: CRCW08052R37FKEA; Name: Resistor_2.37R; PN: 541-2.37CCCT-ND; URL: http://www.digikey.ca/product-detail/en/CRCW08052R37FKEA/541-2.37CCCT-ND
footprint RESC2112X05M (Chip Resistor, 2-Leads, Body 2.05x1.25mm, IPC Low Density)
pins: 1, 2

## Resistor_2.43K
designator R?, comment Res3  value 2.43K
RES SMD 2.43K OHM 1% 1/8W 0805; MPN: CRCW08052K43FKEA; Name: Resistor_2.43K; PN: 541-2430KCCT-ND; URL: http://www.digikey.ca/product-detail/en/CRCW08052K43FKEA/541-2430KCCT-ND
footprint RESC2112X05M (Chip Resistor, 2-Leads, Body 2.05x1.25mm, IPC Low Density)
pins: 1, 2

## Resistor_2.43M
designator R?, comment Res3  value 2.43M
RES SMD 2.43M OHM 1% 1/8W 0805; MPN: CRCW08052M43FKEA; Name: Resistor_2.43M; PN: 541-2430MCCT-ND; URL: http://www.digikey.ca/product-detail/en/CRCW08052M43FKEA/541-2430MCCT-ND
footprint RESC2112X05M (Chip Resistor, 2-Leads, Body 2.05x1.25mm, IPC Low Density)
pins: 1, 2

## Resistor_2.43R
designator R?, comment Res3  value 2.43R
RES SMD 2.43R OHM 1% 1/8W 0805; MPN: CRCW08052R43FKEA; Name: Resistor_2.43R; PN: 541-2.43CCCT-ND; URL: http://www.digikey.ca/product-detail/en/CRCW08052R43FKEA/541-2.43CCCT-ND
footprint RESC2112X05M (Chip Resistor, 2-Leads, Body 2.05x1.25mm, IPC Low Density)
pins: 1, 2

## Resistor_2.49K
designator R?, comment Res3  value 2.49K
RES SMD 2.49K OHM 1% 1/8W 0805; MPN: CRCW08052K49FKEA; Name: Resistor_2.49K; PN: 541-2490KCCT-ND; URL: http://www.digikey.ca/product-detail/en/CRCW08052K49FKEA/541-2490KCCT-ND
footprint RESC2112X05M (Chip Resistor, 2-Leads, Body 2.05x1.25mm, IPC Low Density)
pins: 1, 2

## Resistor_2.49M
designator R?, comment Res3  value 2.49M
RES SMD 2.49M OHM 1% 1/8W 0805; MPN: CRCW08052M49FKEA; Name: Resistor_2.49M; PN: 541-2490MCCT-ND; URL: http://www.digikey.ca/product-detail/en/CRCW08052M49FKEA/541-2490MCCT-ND
footprint RESC2112X05M (Chip Resistor, 2-Leads, Body 2.05x1.25mm, IPC Low Density)
pins: 1, 2

## Resistor_2.49R
designator R?, comment Res3  value 2.49R
RES SMD 2.49R OHM 1% 1/8W 0805; MPN: CRCW08052R49FKEA; Name: Resistor_2.49R; PN: 541-2.49CCCT-ND; URL: http://www.digikey.ca/product-detail/en/CRCW08052R49FKEA/541-2.49CCCT-ND
footprint RESC2112X05M (Chip Resistor, 2-Leads, Body 2.05x1.25mm, IPC Low Density)
pins: 1, 2

## Resistor_2.55K
designator R?, comment Res3  value 2.55K
RES SMD 2.55K OHM 1% 1/8W 0805; MPN: CRCW08052K55FKEA; Name: Resistor_2.55K; PN: 541-2550KCCT-ND; URL: http://www.digikey.ca/product-detail/en/CRCW08052K55FKEA/541-2550KCCT-ND
footprint RESC2112X05M (Chip Resistor, 2-Leads, Body 2.05x1.25mm, IPC Low Density)
pins: 1, 2

## Resistor_2.55M
designator R?, comment Res3  value 2.55M
RES SMD 2.55M OHM 1% 1/8W 0805; MPN: CRCW08052M55FKEA; Name: Resistor_2.55M; PN: 541-2550MCCT-ND; URL: http://www.digikey.ca/product-detail/en/CRCW08052M55FKEA/541-2550MCCT-ND
footprint RESC2112X05M (Chip Resistor, 2-Leads, Body 2.05x1.25mm, IPC Low Density)
pins: 1, 2

## Resistor_2.55R
designator R?, comment Res3  value 2.55R
RES SMD 2.55R OHM 1% 1/8W 0805; MPN: CRCW08052R55FKEA; Name: Resistor_2.55R; PN: 541-2.55CCCT-ND; URL: http://www.digikey.ca/product-detail/en/CRCW08052R55FKEA/541-2.55CCCT-ND
footprint RESC2112X05M (Chip Resistor, 2-Leads, Body 2.05x1.25mm, IPC Low Density)
pins: 1, 2

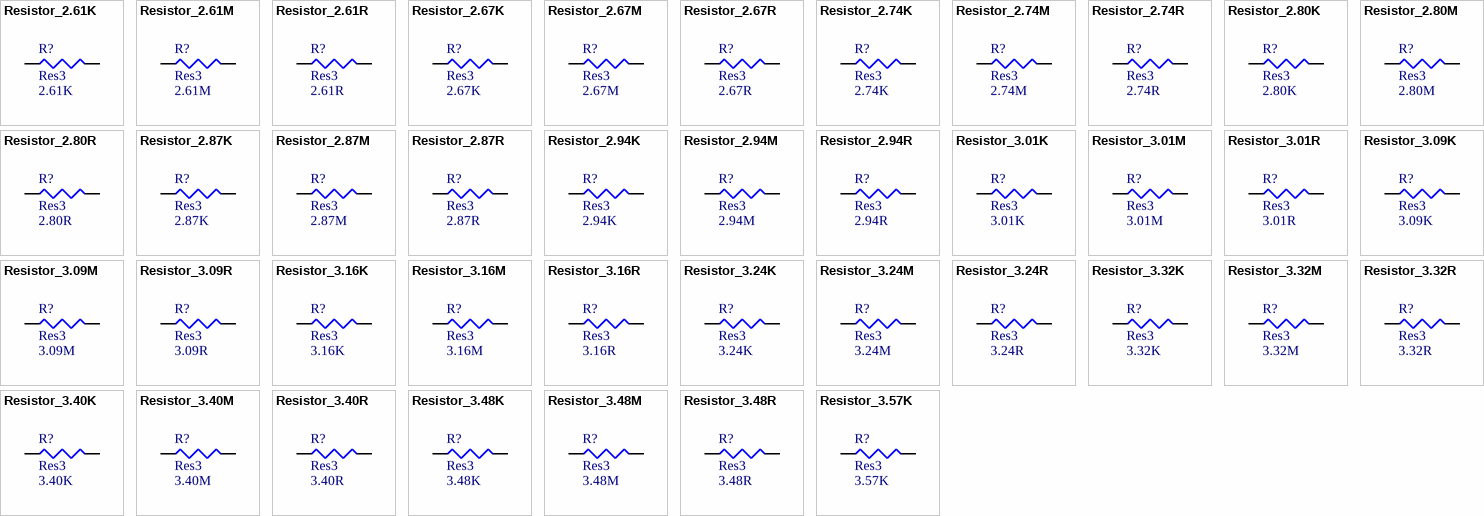
[diagram p3: symbols Resistor_2.61K to Resistor_3.57K]

## Resistor_2.61K
designator R?, comment Res3  value 2.61K
RES SMD 2.61K OHM 1% 1/8W 0805; MPN: CRCW08052K61FKEA; Name: Resistor_2.61K; PN: 541-2610KCCT-ND; URL: http://www.digikey.ca/product-detail/en/CRCW08052K61FKEA/541-2610KCCT-ND
footprint RESC2112X05M (Chip Resistor, 2-Leads, Body 2.05x1.25mm, IPC Low Density)
pins: 1, 2

## Resistor_2.61M
designator R?, comment Res3  value 2.61M
RES SMD 2.61M OHM 1% 1/8W 0805; MPN: CRCW08052M61FKEA; Name: Resistor_2.61M; PN: 541-2610MCCT-ND; URL: http://www.digikey.ca/product-detail/en/CRCW08052M61FKEA/541-2610MCCT-ND
footprint RESC2112X05M (Chip Resistor, 2-Leads, Body 2.05x1.25mm, IPC Low Density)
pins: 1, 2

## Resistor_2.61R
designator R?, comment Res3  value 2.61R
RES SMD 2.61R OHM 1% 1/8W 0805; MPN: CRCW08052R61FKEA; Name: Resistor_2.61R; PN: 541-2.61CCCT-ND; URL: http://www.digikey.ca/product-detail/en/CRCW08052R61FKEA/541-2.61CCCT-ND
footprint RESC2112X05M (Chip Resistor, 2-Leads, Body 2.05x1.25mm, IPC Low Density)
pins: 1, 2

## Resistor_2.67K
designator R?, comment Res3  value 2.67K
RES SMD 2.67K OHM 1% 1/8W 0805; MPN: CRCW08052K67FKEA; Name: Resistor_2.67K; PN: 541-2670KCCT-ND; URL: http://www.digikey.ca/product-detail/en/CRCW08052K67FKEA/541-2670KCCT-ND
footprint RESC2112X05M (Chip Resistor, 2-Leads, Body 2.05x1.25mm, IPC Low Density)
pins: 1, 2

## Resistor_2.67M
designator R?, comment Res3  value 2.67M
RES SMD 2.67M OHM 1% 1/8W 0805; MPN: CRCW08052M67FKEA; Name: Resistor_2.67M; PN: 541-2670MCCT-ND; URL: http://www.digikey.ca/product-detail/en/CRCW08052M67FKEA/541-2670MCCT-ND
footprint RESC2112X05M (Chip Resistor, 2-Leads, Body 2.05x1.25mm, IPC Low Density)
pins: 1, 2

## Resistor_2.67R
designator R?, comment Res3  value 2.67R
RES SMD 2.67R OHM 1% 1/8W 0805; MPN: CRCW08052R67FKEA; Name: Resistor_2.67R; PN: 541-2.67CCCT-ND; URL: http://www.digikey.ca/product-detail/en/CRCW08052R67FKEA/541-2.67CCCT-ND
footprint RESC2112X05M (Chip Resistor, 2-Leads, Body 2.05x1.25mm, IPC Low Density)
pins: 1, 2

## Resistor_2.74K
designator R?, comment Res3  value 2.74K
RES SMD 2.74K OHM 1% 1/8W 0805; MPN: CRCW08052K74FKEA; Name: Resistor_2.74K; PN: 541-2740KCCT-ND; URL: http://www.digikey.ca/product-detail/en/CRCW08052K74FKEA/541-2740KCCT-ND
footprint RESC2112X05M (Chip Resistor, 2-Leads, Body 2.05x1.25mm, IPC Low Density)
pins: 1, 2

## Resistor_2.74M
designator R?, comment Res3  value 2.74M
RES SMD 2.74M OHM 1% 1/8W 0805; MPN: CRCW08052M74FKEA; Name: Resistor_2.74M; PN: 541-2740MCCT-ND; URL: http://www.digikey.ca/product-detail/en/CRCW08052M74FKEA/541-2740MCCT-ND
footprint RESC2112X05M (Chip Resistor, 2-Leads, Body 2.05x1.25mm, IPC Low Density)
pins: 1, 2

## Resistor_2.74R
designator R?, comment Res3  value 2.74R
RES SMD 2.74R OHM 1% 1/8W 0805; MPN: CRCW08052R74FKEA; Name: Resistor_2.74R; PN: 541-2.74CCCT-ND; URL: http://www.digikey.ca/product-detail/en/CRCW08052R74FKEA/541-2.74CCCT-ND
footprint RESC2112X05M (Chip Resistor, 2-Leads, Body 2.05x1.25mm, IPC Low Density)
pins: 1, 2

## Resistor_2.80K
designator R?, comment Res3  value 2.80K
RES SMD 2.80K OHM 1% 1/8W 0805; MPN: CRCW08052K80FKEA; Name: Resistor_2.80K; PN: 541-2800KCCT-ND; URL: http://www.digikey.ca/product-detail/en/CRCW08052K80FKEA/541-2800KCCT-ND
footprint RESC2112X05M (Chip Resistor, 2-Leads, Body 2.05x1.25mm, IPC Low Density)
pins: 1, 2

## Resistor_2.80M
designator R?, comment Res3  value 2.80M
RES SMD 2.80M OHM 1% 1/8W 0805; MPN: CRCW08052M80FKEA; Name: Resistor_2.80M; PN: 541-2800MCCT-ND; URL: http://www.digikey.ca/product-detail/en/CRCW08052M80FKEA/541-2800MCCT-ND
footprint RESC2112X05M (Chip Resistor, 2-Leads, Body 2.05x1.25mm, IPC Low Density)
pins: 1, 2

## Resistor_2.80R
designator R?, comment Res3  value 2.80R
RES SMD 2.80R OHM 1% 1/8W 0805; MPN: CRCW08052R80FKEA; Name: Resistor_2.80R; PN: 541-2.80CCCT-ND; URL: http://www.digikey.ca/product-detail/en/CRCW08052R80FKEA/541-2.80CCCT-ND
footprint RESC2112X05M (Chip Resistor, 2-Leads, Body 2.05x1.25mm, IPC Low Density)
pins: 1, 2

## Resistor_2.87K
designator R?, comment Res3  value 2.87K
RES SMD 2.87K OHM 1% 1/8W 0805; MPN: CRCW08052K87FKEA; Name: Resistor_2.87K; PN: 541-2870KCCT-ND; URL: http://www.digikey.ca/product-detail/en/CRCW08052K87FKEA/541-2870KCCT-ND
footprint RESC2112X05M (Chip Resistor, 2-Leads, Body 2.05x1.25mm, IPC Low Density)
pins: 1, 2

## Resistor_2.87M
designator R?, comment Res3  value 2.87M
RES SMD 2.87M OHM 1% 1/8W 0805; MPN: CRCW08052M87FKEA; Name: Resistor_2.87M; PN: 541-2870MCCT-ND; URL: http://www.digikey.ca/product-detail/en/CRCW08052M87FKEA/541-2870MCCT-ND
footprint RESC2112X05M (Chip Resistor, 2-Leads, Body 2.05x1.25mm, IPC Low Density)
pins: 1, 2

## Resistor_2.87R
designator R?, comment Res3  value 2.87R
RES SMD 2.87R OHM 1% 1/8W 0805; MPN: CRCW08052R87FKEA; Name: Resistor_2.87R; PN: 541-2.87CCCT-ND; URL: http://www.digikey.ca/product-detail/en/CRCW08052R87FKEA/541-2.87CCCT-ND
footprint RESC2112X05M (Chip Resistor, 2-Leads, Body 2.05x1.25mm, IPC Low Density)
pins: 1, 2

## Resistor_2.94K
designator R?, comment Res3  value 2.94K
RES SMD 2.94K OHM 1% 1/8W 0805; MPN: CRCW08052K94FKEA; Name: Resistor_2.94K; PN: 541-2940KCCT-ND; URL: http://www.digikey.ca/product-detail/en/CRCW08052K94FKEA/541-2940KCCT-ND
footprint RESC2112X05M (Chip Resistor, 2-Leads, Body 2.05x1.25mm, IPC Low Density)
pins: 1, 2

## Resistor_2.94M
designator R?, comment Res3  value 2.94M
RES SMD 2.94M OHM 1% 1/8W 0805; MPN: CRCW08052M94FKEA; Name: Resistor_2.94M; PN: 541-2940MCCT-ND; URL: http://www.digikey.ca/product-detail/en/CRCW08052M94FKEA/541-2940MCCT-ND
footprint RESC2112X05M (Chip Resistor, 2-Leads, Body 2.05x1.25mm, IPC Low Density)
pins: 1, 2

## Resistor_2.94R
designator R?, comment Res3  value 2.94R
RES SMD 2.94R OHM 1% 1/8W 0805; MPN: CRCW08052R94FKEA; Name: Resistor_2.94R; PN: 541-2.94CCCT-ND; URL: http://www.digikey.ca/product-detail/en/CRCW08052R94FKEA/541-2.94CCCT-ND
footprint RESC2112X05M (Chip Resistor, 2-Leads, Body 2.05x1.25mm, IPC Low Density)
pins: 1, 2

## Resistor_3.01K
designator R?, comment Res3  value 3.01K
RES SMD 3.01K OHM 1% 1/8W 0805; MPN: CRCW08053K01FKEA; Name: Resistor_3.01K; PN: 541-3010KCCT-ND; URL: http://www.digikey.ca/product-detail/en/CRCW08053K01FKEA/541-3010KCCT-ND
footprint RESC2112X05M (Chip Resistor, 2-Leads, Body 2.05x1.25mm, IPC Low Density)
pins: 1, 2

## Resistor_3.01M
designator R?, comment Res3  value 3.01M
RES SMD 3.01M OHM 1% 1/8W 0805; MPN: CRCW08053M01FKEA; Name: Resistor_3.01M; PN: 541-3010MCCT-ND; URL: http://www.digikey.ca/product-detail/en/CRCW08053M01FKEA/541-3010MCCT-ND
footprint RESC2112X05M (Chip Resistor, 2-Leads, Body 2.05x1.25mm, IPC Low Density)
pins: 1, 2

## Resistor_3.01R
designator R?, comment Res3  value 3.01R
RES SMD 3.01R OHM 1% 1/8W 0805; MPN: CRCW08053R01FKEA; Name: Resistor_3.01R; PN: 541-3.01CCCT-ND; URL: http://www.digikey.ca/product-detail/en/CRCW08053R01FKEA/541-3.01CCCT-ND
footprint RESC2112X05M (Chip Resistor, 2-Leads, Body 2.05x1.25mm, IPC Low Density)
pins: 1, 2

## Resistor_3.09K
designator R?, comment Res3  value 3.09K
RES SMD 3.09K OHM 1% 1/8W 0805; MPN: CRCW08053K09FKEA; Name: Resistor_3.09K; PN: 541-3090KCCT-ND; URL: http://www.digikey.ca/product-detail/en/CRCW08053K09FKEA/541-3090KCCT-ND
footprint RESC2112X05M (Chip Resistor, 2-Leads, Body 2.05x1.25mm, IPC Low Density)
pins: 1, 2

## Resistor_3.09M
designator R?, comment Res3  value 3.09M
RES SMD 3.09M OHM 1% 1/8W 0805; MPN: CRCW08053M09FKEA; Name: Resistor_3.09M; PN: 541-3090MCCT-ND; URL: http://www.digikey.ca/product-detail/en/CRCW08053M09FKEA/541-3090MCCT-ND
footprint RESC2112X05M (Chip Resistor, 2-Leads, Body 2.05x1.25mm, IPC Low Density)
pins: 1, 2

## Resistor_3.09R
designator R?, comment Res3  value 3.09R
RES SMD 3.09R OHM 1% 1/8W 0805; MPN: CRCW08053R09FKEA; Name: Resistor_3.09R; PN: 541-3.09CCCT-ND; URL: http://www.digikey.ca/product-detail/en/CRCW08053R09FKEA/541-3.09CCCT-ND
footprint RESC2112X05M (Chip Resistor, 2-Leads, Body 2.05x1.25mm, IPC Low Density)
pins: 1, 2

## Resistor_3.16K
designator R?, comment Res3  value 3.16K
RES SMD 3.16K OHM 1% 1/8W 0805; MPN: CRCW08053K16FKEA; Name: Resistor_3.16K; PN: 541-3160KCCT-ND; URL: http://www.digikey.ca/product-detail/en/CRCW08053K16FKEA/541-3160KCCT-ND
footprint RESC2112X05M (Chip Resistor, 2-Leads, Body 2.05x1.25mm, IPC Low Density)
pins: 1, 2

## Resistor_3.16M
designator R?, comment Res3  value 3.16M
RES SMD 3.16M OHM 1% 1/8W 0805; MPN: CRCW08053M16FKEA; Name: Resistor_3.16M; PN: 541-3160MCCT-ND; URL: http://www.digikey.ca/product-detail/en/CRCW08053M16FKEA/541-3160MCCT-ND
footprint RESC2112X05M (Chip Resistor, 2-Leads, Body 2.05x1.25mm, IPC Low Density)
pins: 1, 2

## Resistor_3.16R
designator R?, comment Res3  value 3.16R
RES SMD 3.16R OHM 1% 1/8W 0805; MPN: CRCW08053R16FKEA; Name: Resistor_3.16R; PN: 541-3.16CCCT-ND; URL: http://www.digikey.ca/product-detail/en/CRCW08053R16FKEA/541-3.16CCCT-ND
footprint RESC2112X05M (Chip Resistor, 2-Leads, Body 2.05x1.25mm, IPC Low Density)
pins: 1, 2

## Resistor_3.24K
designator R?, comment Res3  value 3.24K
RES SMD 3.24K OHM 1% 1/8W 0805; MPN: CRCW08053K24FKEA; Name: Resistor_3.24K; PN: 541-3240KCCT-ND; URL: http://www.digikey.ca/product-detail/en/CRCW08053K24FKEA/541-3240KCCT-ND
footprint RESC2112X05M (Chip Resistor, 2-Leads, Body 2.05x1.25mm, IPC Low Density)
pins: 1, 2

## Resistor_3.24M
designator R?, comment Res3  value 3.24M
RES SMD 3.24M OHM 1% 1/8W 0805; MPN: CRCW08053M24FKEA; Name: Resistor_3.24M; PN: 541-3240MCCT-ND; URL: http://www.digikey.ca/product-detail/en/CRCW08053M24FKEA/541-3240MCCT-ND
footprint RESC2112X05M (Chip Resistor, 2-Leads, Body 2.05x1.25mm, IPC Low Density)
pins: 1, 2

## Resistor_3.24R
designator R?, comment Res3  value 3.24R
RES SMD 3.24R OHM 1% 1/8W 0805; MPN: CRCW08053R24FKEA; Name: Resistor_3.24R; PN: 541-3.24CCCT-ND; URL: http://www.digikey.ca/product-detail/en/CRCW08053R24FKEA/541-3.24CCCT-ND
footprint RESC2112X05M (Chip Resistor, 2-Leads, Body 2.05x1.25mm, IPC Low Density)
pins: 1, 2